# Altium integrated library Analog Devices Interface and Isolation Digital Isolators.IntLib: 645 symbols (part 11 of 36)
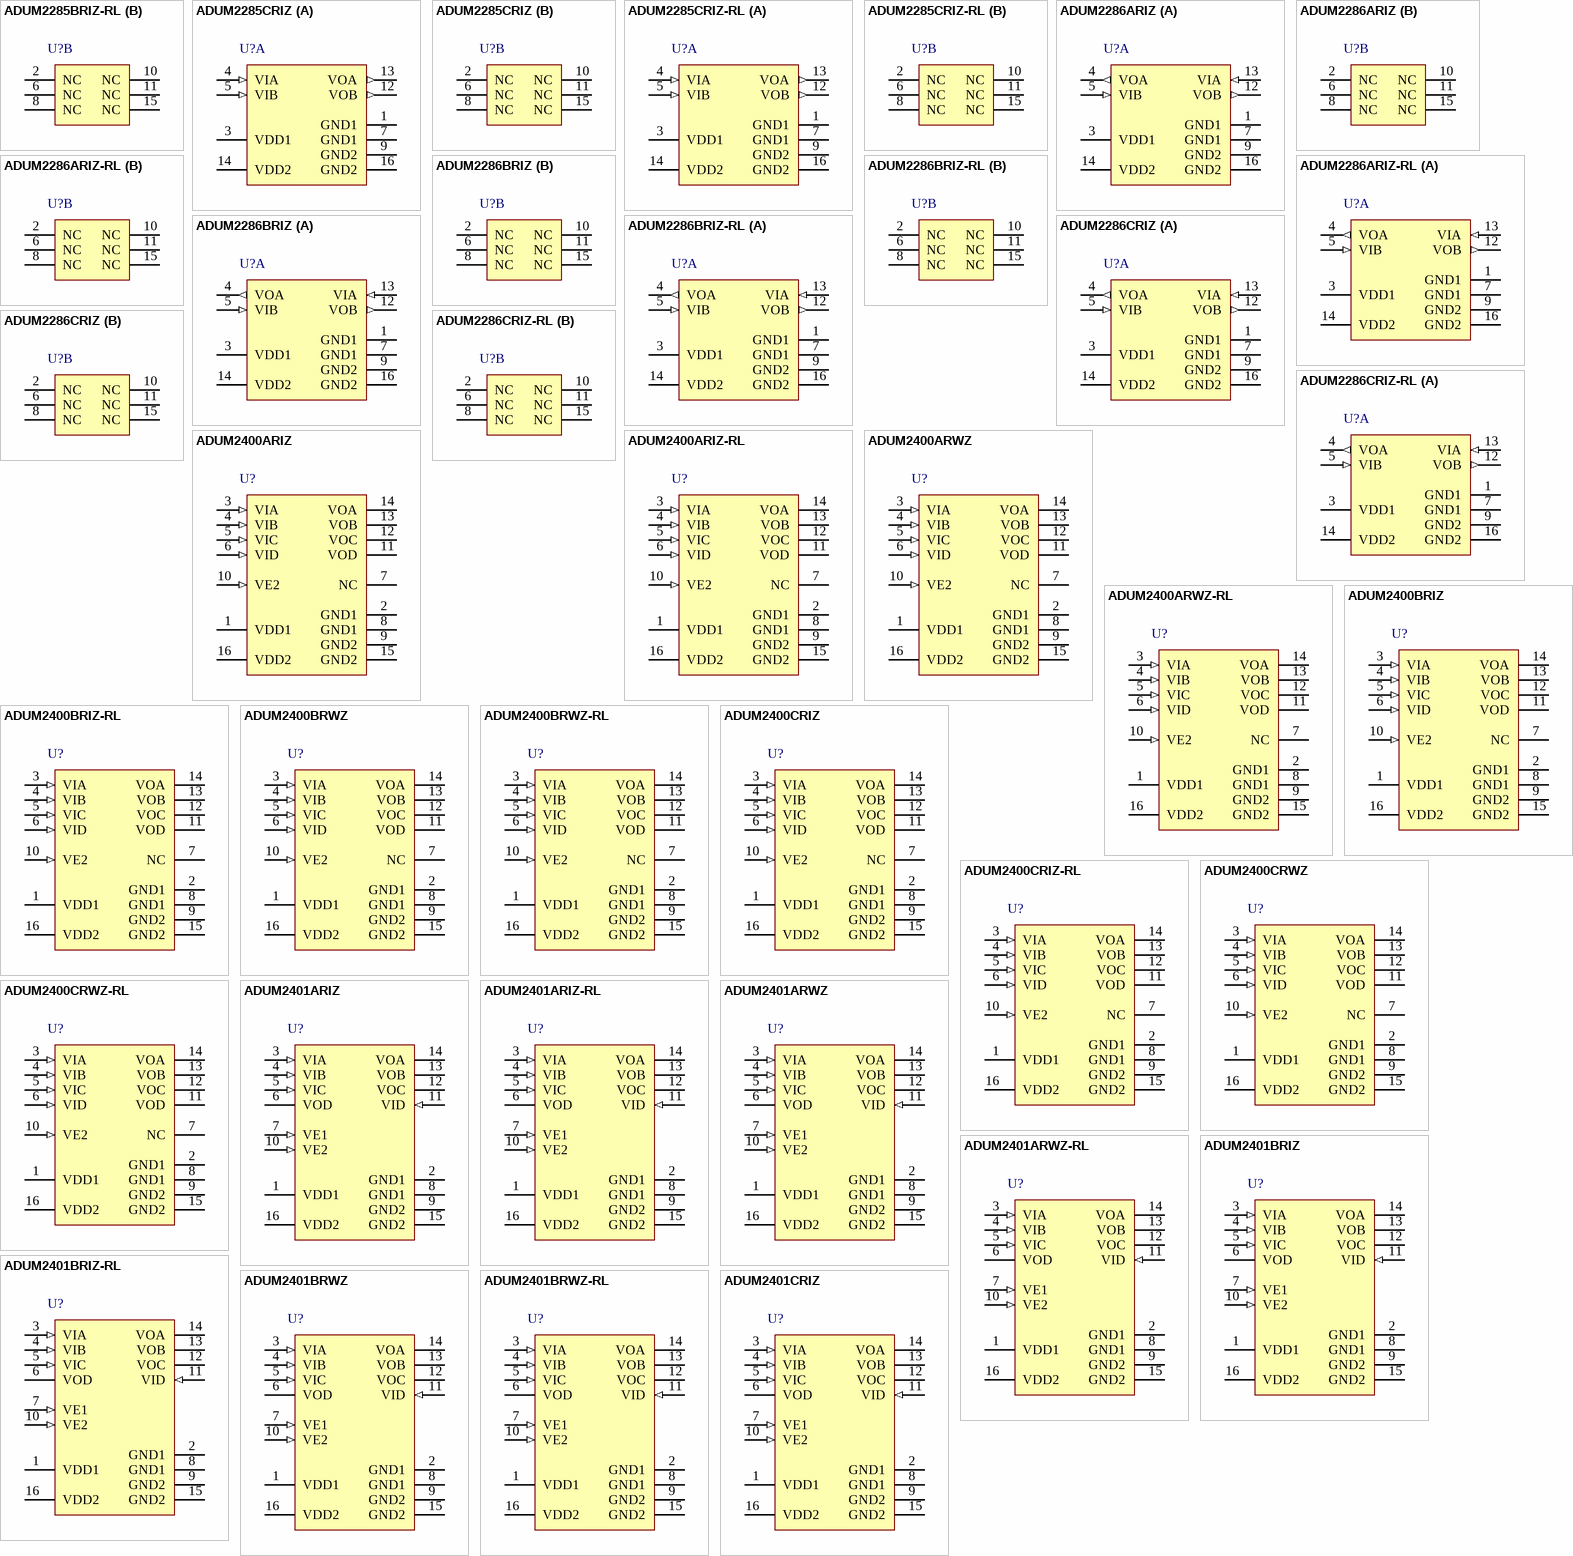
[diagram p30: symbols ADUM2285BRIZ-RL to ADUM2401CRIZ]

## ADUM2285CRIZ-RL
designator U?
Dual Channel Digital Isolator, 5 KV rms Insulation Rating, 100 Mbps Data Rate, 24 ns Delay, Industrial, 16-pin SOIC (RI-16-2), Reel; Manufacturer: Analog Devices; PartNumber: ADUM2285CRIZ-RL; Insulation Rating (kVrms): 5; DatasheetVersion: 11-15-2011-A; PackageVersion: 11-15-2011-A, 11/2012; PackageReference: RI-16-2; PackageDescription: 16-Pin Standard Small Outline Package, with Increased Creepage, Body 12.75 x 7.5 mm, Pitch 1.27 mm; Supplier 1: Digi-Key; Supplier Part Number 1: ADUM2285CRIZ-RL-ND; Max Data Rate: 100Mbps; Max Operating Temp (degreesC): 125; Mounting Technology: Surface Mount; Code_JEDEC: MS-013-AC; ComponentLink1Description: Manufacturer URL; ComponentLink1URL: http://www.analog.com/en/index.html; ComponentLink2Description: Datasheet; ComponentLink2URL: http://www.analog.com/static/imported-files/data_sheets/ADuM2280_2281_2285_2286.pdf; ComponentLink3Description: Package Specification; ComponentLink3URL: http://www.analog.com/static/imported-files/data_sheets/ADuM2280_2281_2285_2286.pdf; ComponentLink4Description: URL Link1; ComponentLink4URL: Product URL:http://www.analog.com/en/interface-isolation/digital-isolators/adum2285/products/product.html
footprint ADI-RI-16-2_N (SOIC, 16-Leads, Body 12.75x7.5mm, Pitch 1.27mm, IPC Medium Density)
footprint ADI-RI-16-2_L (SOIC, 16-Leads, Body 12.75x7.5mm, Pitch 1.27mm, IPC High Density)
footprint ADI-RI-16-2_M (SOIC, 16-Leads, Body 12.75x7.5mm, Pitch 1.27mm, IPC Low Density)
part A pins: 1 GND1 (power) "Ground 1. Ground reference for Isolator Side 1.", 3 VDD1 (power) "Supply Voltage for Isolator Side 1, 2.7 V to 5.5 V.", 4 VIA (in) "Logic Input A.", 5 VIB (in) "Logic Input B.", 7 GND1 (power) "Ground 1. Ground reference for Isolator Side 1.", 9 GND2 (power) "Ground 2. Ground reference for Isolator Side 2.", 12 VOB (out) "Logic Output B.", 13 VOA (out) "Logic Output A.", 14 VDD2 (power) "Supply Voltage for Isolator Side 2, 2.7 V to 5.5 V.", 16 GND2 (power) "Ground 2. Ground reference for Isolator Side 2."
part B pins: 2 NC "No internal connection.", 6 NC "No internal connection.", 8 NC "No internal connection.", 10 NC "No internal connection.", 11 NC "No internal connection.", 15 NC "No internal connection."

## ADUM2286ARIZ
designator U?
Dual Channel Digital Isolator, 5 KV rms Insulation Rating, 1 Mbps Data Rate, 50 ns Delay, Industrial, 16-pin SOIC (RI-16-2), Tube; Manufacturer: Analog Devices; PartNumber: ADUM2286ARIZ; Insulation Rating (kVrms): 5; Max Data Rate: 1Mbps; DatasheetVersion: 11-15-2011-A; PackageVersion: 11-15-2011-A, 11/2012; PackageReference: RI-16-2; PackageDescription: 16-Pin Standard Small Outline Package, with Increased Creepage, Body 12.75 x 7.5 mm, Pitch 1.27 mm; Supplier 1: Digi-Key; Supplier Part Number 1: ADUM2286ARIZ-ND; Max Operating Temp (degreesC): 125; Mounting Technology: Surface Mount; Code_JEDEC: MS-013-AC; ComponentLink1Description: Manufacturer URL; ComponentLink1URL: http://www.analog.com/en/index.html; ComponentLink2Description: Datasheet; ComponentLink2URL: http://www.analog.com/static/imported-files/data_sheets/ADuM2280_2281_2285_2286.pdf; ComponentLink3Description: Package Specification; ComponentLink3URL: http://www.analog.com/static/imported-files/data_sheets/ADuM2280_2281_2285_2286.pdf; ComponentLink4Description: URL Link1; ComponentLink4URL: Product URL:http://www.analog.com/en/interface-isolation/digital-isolators/adum2286/products/product.html
footprint ADI-RI-16-2_N (SOIC, 16-Leads, Body 12.75x7.5mm, Pitch 1.27mm, IPC Medium Density)
footprint ADI-RI-16-2_L (SOIC, 16-Leads, Body 12.75x7.5mm, Pitch 1.27mm, IPC High Density)
footprint ADI-RI-16-2_M (SOIC, 16-Leads, Body 12.75x7.5mm, Pitch 1.27mm, IPC Low Density)
part A pins: 1 GND1 (power) "Ground 1. Ground reference for Isolator Side 1.", 3 VDD1 (power) "Supply Voltage for Isolator Side 1.", 4 VOA (out) "Logic Output A.", 5 VIB (in) "Logic Input B.", 7 GND1 (power) "Ground 1. Ground reference for Isolator Side 1.", 9 GND2 (power) "Ground 2. Ground reference for Isolator Side 2.", 12 VOB (out) "Logic Output B.", 13 VIA (in) "Logic Input A.", 14 VDD2 (power) "Supply Voltage for Isolator Side 2.", 16 GND2 (power) "Ground 2. Ground reference for Isolator Side 2."
part B pins: 2 NC "No internal connection.", 6 NC "No internal connection.", 8 NC "No internal connection.", 10 NC "No internal connection.", 11 NC "No internal connection.", 15 NC "No internal connection."

## ADUM2286ARIZ-RL
designator U?
Dual Channel Digital Isolator, 5 KV rms Insulation Rating, 1 Mbps Data Rate, 50 ns Delay, Industrial, 16-pin SOIC (RI-16-2), Reel; Manufacturer: Analog Devices; PartNumber: ADUM2286ARIZ-RL; Insulation Rating (kVrms): 5; Max Data Rate: 1Mbps; DatasheetVersion: 11-15-2011-A; PackageVersion: 11-15-2011-A, 11/2012; PackageReference: RI-16-2; PackageDescription: 16-Pin Standard Small Outline Package, with Increased Creepage, Body 12.75 x 7.5 mm, Pitch 1.27 mm; Supplier 1: Digi-Key; Supplier Part Number 1: ADUM2286ARIZ-RL-ND; Max Operating Temp (degreesC): 125; Mounting Technology: Surface Mount; Code_JEDEC: MS-013-AC; ComponentLink1Description: Manufacturer URL; ComponentLink1URL: http://www.analog.com/en/index.html; ComponentLink2Description: Datasheet; ComponentLink2URL: http://www.analog.com/static/imported-files/data_sheets/ADuM2280_2281_2285_2286.pdf; ComponentLink3Description: Package Specification; ComponentLink3URL: http://www.analog.com/static/imported-files/data_sheets/ADuM2280_2281_2285_2286.pdf; ComponentLink4Description: URL Link1; ComponentLink4URL: Product URL:http://www.analog.com/en/interface-isolation/digital-isolators/adum2286/products/product.html
footprint ADI-RI-16-2_N (SOIC, 16-Leads, Body 12.75x7.5mm, Pitch 1.27mm, IPC Medium Density)
footprint ADI-RI-16-2_L (SOIC, 16-Leads, Body 12.75x7.5mm, Pitch 1.27mm, IPC High Density)
footprint ADI-RI-16-2_M (SOIC, 16-Leads, Body 12.75x7.5mm, Pitch 1.27mm, IPC Low Density)
part A pins: 1 GND1 (power) "Ground 1. Ground reference for Isolator Side 1.", 3 VDD1 (power) "Supply Voltage for Isolator Side 1.", 4 VOA (out) "Logic Output A.", 5 VIB (in) "Logic Input B.", 7 GND1 (power) "Ground 1. Ground reference for Isolator Side 1.", 9 GND2 (power) "Ground 2. Ground reference for Isolator Side 2.", 12 VOB (out) "Logic Output B.", 13 VIA (in) "Logic Input A.", 14 VDD2 (power) "Supply Voltage for Isolator Side 2.", 16 GND2 (power) "Ground 2. Ground reference for Isolator Side 2."
part B pins: 2 NC "No internal connection.", 6 NC "No internal connection.", 8 NC "No internal connection.", 10 NC "No internal connection.", 11 NC "No internal connection.", 15 NC "No internal connection."

## ADUM2286BRIZ
designator U?
Dual Channel Digital Isolator, 5 KV rms Insulation Rating, 25 Mbps Data Rate, 35 ns Delay, Industrial, 16-pin SOIC (RI-16-2), Tube; Manufacturer: Analog Devices; PartNumber: ADUM2286BRIZ; Insulation Rating (kVrms): 5; Max Data Rate: 25Mbps; DatasheetVersion: 11-15-2011-A; PackageVersion: 11-15-2011-A, 11/2012; PackageReference: RI-16-2; PackageDescription: 16-Pin Standard Small Outline Package, with Increased Creepage, Body 12.75 x 7.5 mm, Pitch 1.27 mm; Supplier 1: Digi-Key; Supplier Part Number 1: ADUM2286BRIZ-ND; Max Operating Temp (degreesC): 125; Mounting Technology: Surface Mount; Code_JEDEC: MS-013-AC; ComponentLink1Description: Manufacturer URL; ComponentLink1URL: http://www.analog.com/en/index.html; ComponentLink2Description: Datasheet; ComponentLink2URL: http://www.analog.com/static/imported-files/data_sheets/ADuM2280_2281_2285_2286.pdf; ComponentLink3Description: Package Specification; ComponentLink3URL: http://www.analog.com/static/imported-files/data_sheets/ADuM2280_2281_2285_2286.pdf; ComponentLink4Description: URL Link1; ComponentLink4URL: Product URL:http://www.analog.com/en/interface-isolation/digital-isolators/adum2286/products/product.html
footprint ADI-RI-16-2_N (SOIC, 16-Leads, Body 12.75x7.5mm, Pitch 1.27mm, IPC Medium Density)
footprint ADI-RI-16-2_L (SOIC, 16-Leads, Body 12.75x7.5mm, Pitch 1.27mm, IPC High Density)
footprint ADI-RI-16-2_M (SOIC, 16-Leads, Body 12.75x7.5mm, Pitch 1.27mm, IPC Low Density)
part A pins: 1 GND1 (power) "Ground 1. Ground reference for Isolator Side 1.", 3 VDD1 (power) "Supply Voltage for Isolator Side 1.", 4 VOA (out) "Logic Output A.", 5 VIB (in) "Logic Input B.", 7 GND1 (power) "Ground 1. Ground reference for Isolator Side 1.", 9 GND2 (power) "Ground 2. Ground reference for Isolator Side 2.", 12 VOB (out) "Logic Output B.", 13 VIA (in) "Logic Input A.", 14 VDD2 (power) "Supply Voltage for Isolator Side 2.", 16 GND2 (power) "Ground 2. Ground reference for Isolator Side 2."
part B pins: 2 NC "No internal connection.", 6 NC "No internal connection.", 8 NC "No internal connection.", 10 NC "No internal connection.", 11 NC "No internal connection.", 15 NC "No internal connection."

## ADUM2286BRIZ-RL
designator U?
Dual Channel Digital Isolator, 5 KV rms Insulation Rating, 25 Mbps Data Rate, 35 ns Delay, Industrial, 16-pin SOIC (RI-16-2), Reel; Manufacturer: Analog Devices; PartNumber: ADUM2286BRIZ-RL; Insulation Rating (kVrms): 5; Max Data Rate: 25Mbps; DatasheetVersion: 11-15-2011-A; PackageVersion: 11-15-2011-A, 11/2012; PackageReference: RI-16-2; PackageDescription: 16-Pin Standard Small Outline Package, with Increased Creepage, Body 12.75 x 7.5 mm, Pitch 1.27 mm; Supplier 1: Digi-Key; Supplier Part Number 1: ADUM2286BRIZ-RL-ND; Max Operating Temp (degreesC): 125; Mounting Technology: Surface Mount; Code_JEDEC: MS-013-AC; ComponentLink1Description: Manufacturer URL; ComponentLink1URL: http://www.analog.com/en/index.html; ComponentLink2Description: Datasheet; ComponentLink2URL: http://www.analog.com/static/imported-files/data_sheets/ADuM2280_2281_2285_2286.pdf; ComponentLink3Description: Package Specification; ComponentLink3URL: http://www.analog.com/static/imported-files/data_sheets/ADuM2280_2281_2285_2286.pdf; ComponentLink4Description: URL Link1; ComponentLink4URL: Product URL:http://www.analog.com/en/interface-isolation/digital-isolators/adum2286/products/product.html
footprint ADI-RI-16-2_N (SOIC, 16-Leads, Body 12.75x7.5mm, Pitch 1.27mm, IPC Medium Density)
footprint ADI-RI-16-2_L (SOIC, 16-Leads, Body 12.75x7.5mm, Pitch 1.27mm, IPC High Density)
footprint ADI-RI-16-2_M (SOIC, 16-Leads, Body 12.75x7.5mm, Pitch 1.27mm, IPC Low Density)
part A pins: 1 GND1 (power) "Ground 1. Ground reference for Isolator Side 1.", 3 VDD1 (power) "Supply Voltage for Isolator Side 1.", 4 VOA (out) "Logic Output A.", 5 VIB (in) "Logic Input B.", 7 GND1 (power) "Ground 1. Ground reference for Isolator Side 1.", 9 GND2 (power) "Ground 2. Ground reference for Isolator Side 2.", 12 VOB (out) "Logic Output B.", 13 VIA (in) "Logic Input A.", 14 VDD2 (power) "Supply Voltage for Isolator Side 2.", 16 GND2 (power) "Ground 2. Ground reference for Isolator Side 2."
part B pins: 2 NC "No internal connection.", 6 NC "No internal connection.", 8 NC "No internal connection.", 10 NC "No internal connection.", 11 NC "No internal connection.", 15 NC "No internal connection."

## ADUM2286CRIZ
designator U?
Dual Channel Digital Isolator, 5 KV rms Insulation Rating, 100 Mbps Data Rate, 24 ns Delay, Industrial, 16-pin SOIC (RI-16-2), Tube; Manufacturer: Analog Devices; PartNumber: ADUM2286CRIZ; Insulation Rating (kVrms): 5; DatasheetVersion: 11-15-2011-A; PackageVersion: 11-15-2011-A, 11/2012; PackageReference: RI-16-2; PackageDescription: 16-Pin Standard Small Outline Package, with Increased Creepage, Body 12.75 x 7.5 mm, Pitch 1.27 mm; Supplier 1: Digi-Key; Supplier Part Number 1: ADUM2286CRIZ-ND; Max Data Rate: 100Mbps; Max Operating Temp (degreesC): 125; Mounting Technology: Surface Mount; Code_JEDEC: MS-013-AC; ComponentLink1Description: Manufacturer URL; ComponentLink1URL: http://www.analog.com/en/index.html; ComponentLink2Description: Datasheet; ComponentLink2URL: http://www.analog.com/static/imported-files/data_sheets/ADuM2280_2281_2285_2286.pdf; ComponentLink3Description: Package Specification; ComponentLink3URL: http://www.analog.com/static/imported-files/data_sheets/ADuM2280_2281_2285_2286.pdf; ComponentLink4Description: URL Link1; ComponentLink4URL: Product URL:http://www.analog.com/en/interface-isolation/digital-isolators/adum2286/products/product.html
footprint ADI-RI-16-2_N (SOIC, 16-Leads, Body 12.75x7.5mm, Pitch 1.27mm, IPC Medium Density)
footprint ADI-RI-16-2_L (SOIC, 16-Leads, Body 12.75x7.5mm, Pitch 1.27mm, IPC High Density)
footprint ADI-RI-16-2_M (SOIC, 16-Leads, Body 12.75x7.5mm, Pitch 1.27mm, IPC Low Density)
part A pins: 1 GND1 (power) "Ground 1. Ground reference for Isolator Side 1.", 3 VDD1 (power) "Supply Voltage for Isolator Side 1.", 4 VOA (out) "Logic Output A.", 5 VIB (in) "Logic Input B.", 7 GND1 (power) "Ground 1. Ground reference for Isolator Side 1.", 9 GND2 (power) "Ground 2. Ground reference for Isolator Side 2.", 12 VOB (out) "Logic Output B.", 13 VIA (in) "Logic Input A.", 14 VDD2 (power) "Supply Voltage for Isolator Side 2.", 16 GND2 (power) "Ground 2. Ground reference for Isolator Side 2."
part B pins: 2 NC "No internal connection.", 6 NC "No internal connection.", 8 NC "No internal connection.", 10 NC "No internal connection.", 11 NC "No internal connection.", 15 NC "No internal connection."

## ADUM2286CRIZ-RL
designator U?
Dual Channel Digital Isolator, 5 KV rms Insulation Rating, 100 Mbps Data Rate, 24 ns Delay, Industrial, 16-pin SOIC (RI-16-2), Reel; Manufacturer: Analog Devices; PartNumber: ADUM2286CRIZ-RL; Insulation Rating (kVrms): 5; DatasheetVersion: 11-15-2011-A; PackageVersion: 11-15-2011-A, 11/2012; PackageReference: RI-16-2; PackageDescription: 16-Pin Standard Small Outline Package, with Increased Creepage, Body 12.75 x 7.5 mm, Pitch 1.27 mm; Supplier 1: Digi-Key; Supplier Part Number 1: ADUM2286CRIZ-RL-ND; Max Data Rate: 100Mbps; Max Operating Temp (degreesC): 125; Mounting Technology: Surface Mount; Code_JEDEC: MS-013-AC; ComponentLink1Description: Manufacturer URL; ComponentLink1URL: http://www.analog.com/en/index.html; ComponentLink2Description: Datasheet; ComponentLink2URL: http://www.analog.com/static/imported-files/data_sheets/ADuM2280_2281_2285_2286.pdf; ComponentLink3Description: Package Specification; ComponentLink3URL: http://www.analog.com/static/imported-files/data_sheets/ADuM2280_2281_2285_2286.pdf; ComponentLink4Description: URL Link1; ComponentLink4URL: Product URL:http://www.analog.com/en/interface-isolation/digital-isolators/adum2286/products/product.html
footprint ADI-RI-16-2_N (SOIC, 16-Leads, Body 12.75x7.5mm, Pitch 1.27mm, IPC Medium Density)
footprint ADI-RI-16-2_L (SOIC, 16-Leads, Body 12.75x7.5mm, Pitch 1.27mm, IPC High Density)
footprint ADI-RI-16-2_M (SOIC, 16-Leads, Body 12.75x7.5mm, Pitch 1.27mm, IPC Low Density)
part A pins: 1 GND1 (power) "Ground 1. Ground reference for Isolator Side 1.", 3 VDD1 (power) "Supply Voltage for Isolator Side 1.", 4 VOA (out) "Logic Output A.", 5 VIB (in) "Logic Input B.", 7 GND1 (power) "Ground 1. Ground reference for Isolator Side 1.", 9 GND2 (power) "Ground 2. Ground reference for Isolator Side 2.", 12 VOB (out) "Logic Output B.", 13 VIA (in) "Logic Input A.", 14 VDD2 (power) "Supply Voltage for Isolator Side 2.", 16 GND2 (power) "Ground 2. Ground reference for Isolator Side 2."
part B pins: 2 NC "No internal connection.", 6 NC "No internal connection.", 8 NC "No internal connection.", 10 NC "No internal connection.", 11 NC "No internal connection.", 15 NC "No internal connection."

## ADUM2400ARIZ
designator U?
Quad Channel Digital Isolator, 5 KV rms Insulation Rating, 1 Mbps Data Rate, 100 ns Delay, Industrial, 16-pin SOIC (RI-16-1), Tube; Manufacturer: Analog Devices; PartNumber: ADUM2400ARIZ; Insulation Rating (kVrms): 5; Max Data Rate: 1Mbps; DatasheetVersion: 10-12-2010-A; PackageVersion: 10-12-2010-A, 02/2012; PackageReference: RI-16-1; PackageDescription: 16-Pin Standard Small Outline Package, with Increased Creepage, Body 12.8 x 7.5 mm, Pitch 1.27 mm; Supplier 1: Digi-Key; Supplier Part Number 1: ADUM2400ARIZ-ND; Max Operating Temp (degreesC): 105; Mounting Technology: Surface Mount; Code_JEDEC: MS-013-AC; ComponentLink1Description: Manufacturer URL; ComponentLink1URL: http://www.analog.com/en/index.html; ComponentLink2Description: Datasheet; ComponentLink2URL: http://www.analog.com/static/imported-files/data_sheets/ADuM2400_2401_2402.pdf; ComponentLink3Description: Package Specification; ComponentLink3URL: http://www.analog.com/static/imported-files/data_sheets/ADuM2400_2401_2402.pdf; ComponentLink4Description: URL Link1; ComponentLink4URL: Product URL:http://www.analog.com/en/interface-isolation/digital-isolators/adum2400/products/product.html
footprint ADI-RI-16-1_N (SOIC, 16-Leads, Body 12.8x7.5mm, Pitch 1.27mm, IPC Medium Density)
footprint ADI-RI-16-1_L (SOIC, 16-Leads, Body 12.8x7.5mm, Pitch 1.27mm, IPC High Density)
footprint ADI-RI-16-1_M (SOIC, 16-Leads, Body 12.8x7.5mm, Pitch 1.27mm, IPC Low Density)
pins: 1 VDD1 (power) "Supply Voltage for Isolator Side 1.", 2 GND1 (power) "Ground 1. Ground reference for Isolator Side 1.", 3 VIA (in) "Logic Input A.", 4 VIB (in) "Logic Input B.", 5 VIC (in) "Logic Input C.", 6 VID (in) "Logic Input D.", 7 NC "No Connect.", 8 GND1 (power) "Ground 1. Ground reference for Isolator Side 1.", 9 GND2 (power) "Ground 2. Ground reference for Isolator Side 2.", 10 VE2 (in) "Output Enable 2. Active high logic input. VOA, VOB, VOC, and VOD outputs are enabled when VE2 is high or disconnected. VOA, VOB, VOC, and VOD outputs are disabled when VE2 is low. In noisy environments, connecting VE2 to an (See Datasheet)", 11 VOD (hiz) "Logic Output D.", 12 VOC (hiz) "Logic Output C.", 13 VOB (hiz) "Logic Output B.", 14 VOA (hiz) "Logic Output A.", 15 GND2 (power) "Ground 2. Ground reference for Isolator Side 2.", 16 VDD2 (power) "Supply Voltage for Isolator Side 2."

## ADUM2400ARIZ-RL
designator U?
Quad Channel Digital Isolator, 5 KV rms Insulation Rating, 1 Mbps Data Rate, 100 ns Delay, Industrial, 16-pin SOIC (RI-16-1), Reel; Manufacturer: Analog Devices; PartNumber: ADUM2400ARIZ-RL; Insulation Rating (kVrms): 5; Max Data Rate: 1Mbps; DatasheetVersion: 10-12-2010-A; PackageVersion: 10-12-2010-A, 02/2012; PackageReference: RI-16-1; PackageDescription: 16-Pin Standard Small Outline Package, with Increased Creepage, Body 12.8 x 7.5 mm, Pitch 1.27 mm; Supplier 1: Digi-Key; Supplier Part Number 1: ADUM2400ARIZ-RL-ND; Max Operating Temp (degreesC): 105; Mounting Technology: Surface Mount; Code_JEDEC: MS-013-AC; ComponentLink1Description: Manufacturer URL; ComponentLink1URL: http://www.analog.com/en/index.html; ComponentLink2Description: Datasheet; ComponentLink2URL: http://www.analog.com/static/imported-files/data_sheets/ADuM2400_2401_2402.pdf; ComponentLink3Description: Package Specification; ComponentLink3URL: http://www.analog.com/static/imported-files/data_sheets/ADuM2400_2401_2402.pdf; ComponentLink4Description: URL Link1; ComponentLink4URL: Product URL:http://www.analog.com/en/interface-isolation/digital-isolators/adum2400/products/product.html
footprint ADI-RI-16-1_N (SOIC, 16-Leads, Body 12.8x7.5mm, Pitch 1.27mm, IPC Medium Density)
footprint ADI-RI-16-1_L (SOIC, 16-Leads, Body 12.8x7.5mm, Pitch 1.27mm, IPC High Density)
footprint ADI-RI-16-1_M (SOIC, 16-Leads, Body 12.8x7.5mm, Pitch 1.27mm, IPC Low Density)
pins: 1 VDD1 (power) "Supply Voltage for Isolator Side 1.", 2 GND1 (power) "Ground 1. Ground reference for Isolator Side 1.", 3 VIA (in) "Logic Input A.", 4 VIB (in) "Logic Input B.", 5 VIC (in) "Logic Input C.", 6 VID (in) "Logic Input D.", 7 NC "No Connect.", 8 GND1 (power) "Ground 1. Ground reference for Isolator Side 1.", 9 GND2 (power) "Ground 2. Ground reference for Isolator Side 2.", 10 VE2 (in) "Output Enable 2. Active high logic input. VOA, VOB, VOC, and VOD outputs are enabled when VE2 is high or disconnected. VOA, VOB, VOC, and VOD outputs are disabled when VE2 is low. In noisy environments, connecting VE2 to an (See Datasheet)", 11 VOD (hiz) "Logic Output D.", 12 VOC (hiz) "Logic Output C.", 13 VOB (hiz) "Logic Output B.", 14 VOA (hiz) "Logic Output A.", 15 GND2 (power) "Ground 2. Ground reference for Isolator Side 2.", 16 VDD2 (power) "Supply Voltage for Isolator Side 2."

## ADUM2400ARWZ
designator U?
Quad Channel Digital Isolator, 5 KV rms Insulation Rating, 1 Mbps Data Rate, 100 ns Delay, Industrial, 16-pin SOIC (RW-16), Tube; Manufacturer: Analog Devices; PartNumber: ADUM2400ARWZ; Insulation Rating (kVrms): 5; Max Data Rate: 1Mbps; DatasheetVersion: 10-12-2010-A; PackageVersion: 032707-B, 03/2007; PackageReference: RW-16; PackageDescription: 16-Pin Standard Small Outline Package, Body 10.3 x 7.5 mm, Pitch 1.27 mm; Supplier 1: Digi-Key; Supplier Part Number 1: ADUM2400ARWZ-ND; Max Operating Temp (degreesC): 105; Mounting Technology: Surface Mount; Code_JEDEC: MS-013-AA; ComponentLink1Description: Manufacturer URL; ComponentLink1URL: http://www.analog.com/en/index.html; ComponentLink2Description: Datasheet; ComponentLink2URL: http://www.analog.com/static/imported-files/data_sheets/ADuM2400_2401_2402.pdf; ComponentLink3Description: Package Specification; ComponentLink3URL: http://www.analog.com/static/imported-files/packages/PKG_PDF/SOIC_WIDE%20%28RW%29/RW_16.pdf; ComponentLink4Description: URL Link1; ComponentLink4URL: Product URL:http://www.analog.com/en/interface-isolation/digital-isolators/adum2400/products/product.html
footprint ADI-RW-16_N (SOIC, 16-Leads, Body 10.3x7.5mm, Pitch 1.27mm, IPC Medium Density)
footprint ADI-RW-16_L (SOIC, 16-Leads, Body 10.3x7.5mm, Pitch 1.27mm, IPC High Density)
footprint ADI-RW-16_M (SOIC, 16-Leads, Body 10.3x7.5mm, Pitch 1.27mm, IPC Low Density)
pins: 1 VDD1 (power) "Supply Voltage for Isolator Side 1.", 2 GND1 (power) "Ground 1. Ground reference for Isolator Side 1.", 3 VIA (in) "Logic Input A.", 4 VIB (in) "Logic Input B.", 5 VIC (in) "Logic Input C.", 6 VID (in) "Logic Input D.", 7 NC "No Connect.", 8 GND1 (power) "Ground 1. Ground reference for Isolator Side 1.", 9 GND2 (power) "Ground 2. Ground reference for Isolator Side 2.", 10 VE2 (in) "Output Enable 2. Active high logic input. VOA, VOB, VOC, and VOD outputs are enabled when VE2 is high or disconnected. VOA, VOB, VOC, and VOD outputs are disabled when VE2 is low. In noisy environments, connecting VE2 to an (See Datasheet)", 11 VOD (hiz) "Logic Output D.", 12 VOC (hiz) "Logic Output C.", 13 VOB (hiz) "Logic Output B.", 14 VOA (hiz) "Logic Output A.", 15 GND2 (power) "Ground 2. Ground reference for Isolator Side 2.", 16 VDD2 (power) "Supply Voltage for Isolator Side 2."

## ADUM2400ARWZ-RL
designator U?
Quad Channel Digital Isolator, 5 KV rms Insulation Rating, 1 Mbps Data Rate, 100 ns Delay, Industrial, 16-pin SOIC (RW-16), Reel; Manufacturer: Analog Devices; PartNumber: ADUM2400ARWZ-RL; Insulation Rating (kVrms): 5; Max Data Rate: 1Mbps; DatasheetVersion: 10-12-2010-A; PackageVersion: 032707-B, 03/2007; PackageReference: RW-16; PackageDescription: 16-Pin Standard Small Outline Package, Body 10.3 x 7.5 mm, Pitch 1.27 mm; Supplier 1: Digi-Key; Supplier Part Number 1: ADUM2400ARWZ-RLTR-ND; Max Operating Temp (degreesC): 105; Mounting Technology: Surface Mount; Code_JEDEC: MS-013-AA; ComponentLink1Description: Manufacturer URL; ComponentLink1URL: http://www.analog.com/en/index.html; ComponentLink2Description: Datasheet; ComponentLink2URL: http://www.analog.com/static/imported-files/data_sheets/ADuM2400_2401_2402.pdf; ComponentLink3Description: Package Specification; ComponentLink3URL: http://www.analog.com/static/imported-files/packages/PKG_PDF/SOIC_WIDE%20%28RW%29/RW_16.pdf; ComponentLink4Description: URL Link1; ComponentLink4URL: Product URL:http://www.analog.com/en/interface-isolation/digital-isolators/adum2400/products/product.html
footprint ADI-RW-16_N (SOIC, 16-Leads, Body 10.3x7.5mm, Pitch 1.27mm, IPC Medium Density)
footprint ADI-RW-16_L (SOIC, 16-Leads, Body 10.3x7.5mm, Pitch 1.27mm, IPC High Density)
footprint ADI-RW-16_M (SOIC, 16-Leads, Body 10.3x7.5mm, Pitch 1.27mm, IPC Low Density)
pins: 1 VDD1 (power) "Supply Voltage for Isolator Side 1.", 2 GND1 (power) "Ground 1. Ground reference for Isolator Side 1.", 3 VIA (in) "Logic Input A.", 4 VIB (in) "Logic Input B.", 5 VIC (in) "Logic Input C.", 6 VID (in) "Logic Input D.", 7 NC "No Connect.", 8 GND1 (power) "Ground 1. Ground reference for Isolator Side 1.", 9 GND2 (power) "Ground 2. Ground reference for Isolator Side 2.", 10 VE2 (in) "Output Enable 2. Active high logic input. VOA, VOB, VOC, and VOD outputs are enabled when VE2 is high or disconnected. VOA, VOB, VOC, and VOD outputs are disabled when VE2 is low. In noisy environments, connecting VE2 to an (See Datasheet)", 11 VOD (hiz) "Logic Output D.", 12 VOC (hiz) "Logic Output C.", 13 VOB (hiz) "Logic Output B.", 14 VOA (hiz) "Logic Output A.", 15 GND2 (power) "Ground 2. Ground reference for Isolator Side 2.", 16 VDD2 (power) "Supply Voltage for Isolator Side 2."

## ADUM2400BRIZ
designator U?
Quad Channel Digital Isolator, 5 KV rms Insulation Rating, 10 Mbps Data Rate, 50 ns Delay, Industrial, 16-pin SOIC (RI-16-1), Tube; Manufacturer: Analog Devices; PartNumber: ADUM2400BRIZ; Insulation Rating (kVrms): 5; Max Data Rate: 10Mbps; DatasheetVersion: 10-12-2010-A; PackageVersion: 10-12-2010-A, 02/2012; PackageReference: RI-16-1; PackageDescription: 16-Pin Standard Small Outline Package, with Increased Creepage, Body 12.8 x 7.5 mm, Pitch 1.27 mm; Supplier 1: Digi-Key; Supplier Part Number 1: ADUM2400BRIZ-ND; Max Operating Temp (degreesC): 105; Mounting Technology: Surface Mount; Code_JEDEC: MS-013-AC; ComponentLink1Description: Manufacturer URL; ComponentLink1URL: http://www.analog.com/en/index.html; ComponentLink2Description: Datasheet; ComponentLink2URL: http://www.analog.com/static/imported-files/data_sheets/ADuM2400_2401_2402.pdf; ComponentLink3Description: Package Specification; ComponentLink3URL: http://www.analog.com/static/imported-files/data_sheets/ADuM2400_2401_2402.pdf; ComponentLink4Description: URL Link1; ComponentLink4URL: Product URL:http://www.analog.com/en/interface-isolation/digital-isolators/adum2400/products/product.html
footprint ADI-RI-16-1_N (SOIC, 16-Leads, Body 12.8x7.5mm, Pitch 1.27mm, IPC Medium Density)
footprint ADI-RI-16-1_L (SOIC, 16-Leads, Body 12.8x7.5mm, Pitch 1.27mm, IPC High Density)
footprint ADI-RI-16-1_M (SOIC, 16-Leads, Body 12.8x7.5mm, Pitch 1.27mm, IPC Low Density)
pins: 1 VDD1 (power) "Supply Voltage for Isolator Side 1.", 2 GND1 (power) "Ground 1. Ground reference for Isolator Side 1.", 3 VIA (in) "Logic Input A.", 4 VIB (in) "Logic Input B.", 5 VIC (in) "Logic Input C.", 6 VID (in) "Logic Input D.", 7 NC "No Connect.", 8 GND1 (power) "Ground 1. Ground reference for Isolator Side 1.", 9 GND2 (power) "Ground 2. Ground reference for Isolator Side 2.", 10 VE2 (in) "Output Enable 2. Active high logic input. VOA, VOB, VOC, and VOD outputs are enabled when VE2 is high or disconnected. VOA, VOB, VOC, and VOD outputs are disabled when VE2 is low. In noisy environments, connecting VE2 to an (See Datasheet)", 11 VOD (hiz) "Logic Output D.", 12 VOC (hiz) "Logic Output C.", 13 VOB (hiz) "Logic Output B.", 14 VOA (hiz) "Logic Output A.", 15 GND2 (power) "Ground 2. Ground reference for Isolator Side 2.", 16 VDD2 (power) "Supply Voltage for Isolator Side 2."

## ADUM2400BRIZ-RL
designator U?
Quad Channel Digital Isolator, 5 KV rms Insulation Rating, 10 Mbps Data Rate, 50 ns Delay, Industrial, 16-pin SOIC (RI-16-1), Reel; Manufacturer: Analog Devices; PartNumber: ADUM2400BRIZ-RL; Insulation Rating (kVrms): 5; Max Data Rate: 10Mbps; DatasheetVersion: 10-12-2010-A; PackageVersion: 10-12-2010-A, 02/2012; PackageReference: RI-16-1; PackageDescription: 16-Pin Standard Small Outline Package, with Increased Creepage, Body 12.8 x 7.5 mm, Pitch 1.27 mm; Supplier 1: Digi-Key; Supplier Part Number 1: ADUM2400BRIZ-RL-ND; Max Operating Temp (degreesC): 105; Mounting Technology: Surface Mount; Code_JEDEC: MS-013-AC; ComponentLink1Description: Manufacturer URL; ComponentLink1URL: http://www.analog.com/en/index.html; ComponentLink2Description: Datasheet; ComponentLink2URL: http://www.analog.com/static/imported-files/data_sheets/ADuM2400_2401_2402.pdf; ComponentLink3Description: Package Specification; ComponentLink3URL: http://www.analog.com/static/imported-files/data_sheets/ADuM2400_2401_2402.pdf; ComponentLink4Description: URL Link1; ComponentLink4URL: Product URL:http://www.analog.com/en/interface-isolation/digital-isolators/adum2400/products/product.html
footprint ADI-RI-16-1_N (SOIC, 16-Leads, Body 12.8x7.5mm, Pitch 1.27mm, IPC Medium Density)
footprint ADI-RI-16-1_L (SOIC, 16-Leads, Body 12.8x7.5mm, Pitch 1.27mm, IPC High Density)
footprint ADI-RI-16-1_M (SOIC, 16-Leads, Body 12.8x7.5mm, Pitch 1.27mm, IPC Low Density)
pins: 1 VDD1 (power) "Supply Voltage for Isolator Side 1.", 2 GND1 (power) "Ground 1. Ground reference for Isolator Side 1.", 3 VIA (in) "Logic Input A.", 4 VIB (in) "Logic Input B.", 5 VIC (in) "Logic Input C.", 6 VID (in) "Logic Input D.", 7 NC "No Connect.", 8 GND1 (power) "Ground 1. Ground reference for Isolator Side 1.", 9 GND2 (power) "Ground 2. Ground reference for Isolator Side 2.", 10 VE2 (in) "Output Enable 2. Active high logic input. VOA, VOB, VOC, and VOD outputs are enabled when VE2 is high or disconnected. VOA, VOB, VOC, and VOD outputs are disabled when VE2 is low. In noisy environments, connecting VE2 to an (See Datasheet)", 11 VOD (hiz) "Logic Output D.", 12 VOC (hiz) "Logic Output C.", 13 VOB (hiz) "Logic Output B.", 14 VOA (hiz) "Logic Output A.", 15 GND2 (power) "Ground 2. Ground reference for Isolator Side 2.", 16 VDD2 (power) "Supply Voltage for Isolator Side 2."

## ADUM2400BRWZ
designator U?
Quad Channel Digital Isolator, 5 KV rms Insulation Rating, 10 Mbps Data Rate, 50 ns Delay, Industrial, 16-pin SOIC (RW-16), Tube; Manufacturer: Analog Devices; PartNumber: ADUM2400BRWZ; Insulation Rating (kVrms): 5; Max Data Rate: 10Mbps; DatasheetVersion: 10-12-2010-A; PackageVersion: 032707-B, 03/2007; PackageReference: RW-16; PackageDescription: 16-Pin Standard Small Outline Package, Body 10.3 x 7.5 mm, Pitch 1.27 mm; Supplier 1: Digi-Key; Supplier Part Number 1: ADUM2400BRWZ-ND; Max Operating Temp (degreesC): 105; Mounting Technology: Surface Mount; Code_JEDEC: MS-013-AA; ComponentLink1Description: Manufacturer URL; ComponentLink1URL: http://www.analog.com/en/index.html; ComponentLink2Description: Datasheet; ComponentLink2URL: http://www.analog.com/static/imported-files/data_sheets/ADuM2400_2401_2402.pdf; ComponentLink3Description: Package Specification; ComponentLink3URL: http://www.analog.com/static/imported-files/packages/PKG_PDF/SOIC_WIDE%20%28RW%29/RW_16.pdf; ComponentLink4Description: URL Link1; ComponentLink4URL: Product URL:http://www.analog.com/en/interface-isolation/digital-isolators/adum2400/products/product.html
footprint ADI-RW-16_N (SOIC, 16-Leads, Body 10.3x7.5mm, Pitch 1.27mm, IPC Medium Density)
footprint ADI-RW-16_L (SOIC, 16-Leads, Body 10.3x7.5mm, Pitch 1.27mm, IPC High Density)
footprint ADI-RW-16_M (SOIC, 16-Leads, Body 10.3x7.5mm, Pitch 1.27mm, IPC Low Density)
pins: 1 VDD1 (power) "Supply Voltage for Isolator Side 1.", 2 GND1 (power) "Ground 1. Ground reference for Isolator Side 1.", 3 VIA (in) "Logic Input A.", 4 VIB (in) "Logic Input B.", 5 VIC (in) "Logic Input C.", 6 VID (in) "Logic Input D.", 7 NC "No Connect.", 8 GND1 (power) "Ground 1. Ground reference for Isolator Side 1.", 9 GND2 (power) "Ground 2. Ground reference for Isolator Side 2.", 10 VE2 (in) "Output Enable 2. Active high logic input. VOA, VOB, VOC, and VOD outputs are enabled when VE2 is high or disconnected. VOA, VOB, VOC, and VOD outputs are disabled when VE2 is low. In noisy environments, connecting VE2 to an (See Datasheet)", 11 VOD (hiz) "Logic Output D.", 12 VOC (hiz) "Logic Output C.", 13 VOB (hiz) "Logic Output B.", 14 VOA (hiz) "Logic Output A.", 15 GND2 (power) "Ground 2. Ground reference for Isolator Side 2.", 16 VDD2 (power) "Supply Voltage for Isolator Side 2."

## ADUM2400BRWZ-RL
designator U?
Quad Channel Digital Isolator, 5 KV rms Insulation Rating, 10 Mbps Data Rate, 50 ns Delay, Industrial, 16-pin SOIC (RW-16), Reel; Manufacturer: Analog Devices; PartNumber: ADUM2400BRWZ-RL; Insulation Rating (kVrms): 5; Max Data Rate: 10Mbps; DatasheetVersion: 10-12-2010-A; PackageVersion: 032707-B, 03/2007; PackageReference: RW-16; PackageDescription: 16-Pin Standard Small Outline Package, Body 10.3 x 7.5 mm, Pitch 1.27 mm; Supplier 1: Digi-Key; Supplier Part Number 1: ADUM2400BRWZ-RLTR-ND; Max Operating Temp (degreesC): 105; Mounting Technology: Surface Mount; Code_JEDEC: MS-013-AA; ComponentLink1Description: Manufacturer URL; ComponentLink1URL: http://www.analog.com/en/index.html; ComponentLink2Description: Datasheet; ComponentLink2URL: http://www.analog.com/static/imported-files/data_sheets/ADuM2400_2401_2402.pdf; ComponentLink3Description: Package Specification; ComponentLink3URL: http://www.analog.com/static/imported-files/packages/PKG_PDF/SOIC_WIDE%20%28RW%29/RW_16.pdf; ComponentLink4Description: URL Link1; ComponentLink4URL: Product URL:http://www.analog.com/en/interface-isolation/digital-isolators/adum2400/products/product.html
footprint ADI-RW-16_N (SOIC, 16-Leads, Body 10.3x7.5mm, Pitch 1.27mm, IPC Medium Density)
footprint ADI-RW-16_L (SOIC, 16-Leads, Body 10.3x7.5mm, Pitch 1.27mm, IPC High Density)
footprint ADI-RW-16_M (SOIC, 16-Leads, Body 10.3x7.5mm, Pitch 1.27mm, IPC Low Density)
pins: 1 VDD1 (power) "Supply Voltage for Isolator Side 1.", 2 GND1 (power) "Ground 1. Ground reference for Isolator Side 1.", 3 VIA (in) "Logic Input A.", 4 VIB (in) "Logic Input B.", 5 VIC (in) "Logic Input C.", 6 VID (in) "Logic Input D.", 7 NC "No Connect.", 8 GND1 (power) "Ground 1. Ground reference for Isolator Side 1.", 9 GND2 (power) "Ground 2. Ground reference for Isolator Side 2.", 10 VE2 (in) "Output Enable 2. Active high logic input. VOA, VOB, VOC, and VOD outputs are enabled when VE2 is high or disconnected. VOA, VOB, VOC, and VOD outputs are disabled when VE2 is low. In noisy environments, connecting VE2 to an (See Datasheet)", 11 VOD (hiz) "Logic Output D.", 12 VOC (hiz) "Logic Output C.", 13 VOB (hiz) "Logic Output B.", 14 VOA (hiz) "Logic Output A.", 15 GND2 (power) "Ground 2. Ground reference for Isolator Side 2.", 16 VDD2 (power) "Supply Voltage for Isolator Side 2."

## ADUM2400CRIZ
designator U?
Quad Channel Digital Isolator, 5 KV rms Insulation Rating, 90 Mbps Data Rate, 32 ns Delay, Industrial, 16-pin SOIC (RI-16-1), Tube; Manufacturer: Analog Devices; PartNumber: ADUM2400CRIZ; Insulation Rating (kVrms): 5; Max Data Rate: 90Mbps; DatasheetVersion: 10-12-2010-A; PackageVersion: 10-12-2010-A, 02/2012; PackageReference: RI-16-1; PackageDescription: 16-Pin Standard Small Outline Package, with Increased Creepage, Body 12.8 x 7.5 mm, Pitch 1.27 mm; Supplier 1: Digi-Key; Supplier Part Number 1: ADUM2400CRIZ-ND; Max Operating Temp (degreesC): 105; Mounting Technology: Surface Mount; Code_JEDEC: MS-013-AC; ComponentLink1Description: Manufacturer URL; ComponentLink1URL: http://www.analog.com/en/index.html; ComponentLink2Description: Datasheet; ComponentLink2URL: http://www.analog.com/static/imported-files/data_sheets/ADuM2400_2401_2402.pdf; ComponentLink3Description: Package Specification; ComponentLink3URL: http://www.analog.com/static/imported-files/data_sheets/ADuM2400_2401_2402.pdf; ComponentLink4Description: URL Link1; ComponentLink4URL: Product URL:http://www.analog.com/en/interface-isolation/digital-isolators/adum2400/products/product.html
footprint ADI-RI-16-1_N (SOIC, 16-Leads, Body 12.8x7.5mm, Pitch 1.27mm, IPC Medium Density)
footprint ADI-RI-16-1_L (SOIC, 16-Leads, Body 12.8x7.5mm, Pitch 1.27mm, IPC High Density)
footprint ADI-RI-16-1_M (SOIC, 16-Leads, Body 12.8x7.5mm, Pitch 1.27mm, IPC Low Density)
pins: 1 VDD1 (power) "Supply Voltage for Isolator Side 1.", 2 GND1 (power) "Ground 1. Ground reference for Isolator Side 1.", 3 VIA (in) "Logic Input A.", 4 VIB (in) "Logic Input B.", 5 VIC (in) "Logic Input C.", 6 VID (in) "Logic Input D.", 7 NC "No Connect.", 8 GND1 (power) "Ground 1. Ground reference for Isolator Side 1.", 9 GND2 (power) "Ground 2. Ground reference for Isolator Side 2.", 10 VE2 (in) "Output Enable 2. Active high logic input. VOA, VOB, VOC, and VOD outputs are enabled when VE2 is high or disconnected. VOA, VOB, VOC, and VOD outputs are disabled when VE2 is low. In noisy environments, connecting VE2 to an (See Datasheet)", 11 VOD (hiz) "Logic Output D.", 12 VOC (hiz) "Logic Output C.", 13 VOB (hiz) "Logic Output B.", 14 VOA (hiz) "Logic Output A.", 15 GND2 (power) "Ground 2. Ground reference for Isolator Side 2.", 16 VDD2 (power) "Supply Voltage for Isolator Side 2."

## ADUM2400CRIZ-RL
designator U?
Quad Channel Digital Isolator, 5 KV rms Insulation Rating, 90 Mbps Data Rate, 32 ns Delay, Industrial, 16-pin SOIC (RI-16-1), Reel; Manufacturer: Analog Devices; PartNumber: ADUM2400CRIZ-RL; Insulation Rating (kVrms): 5; Max Data Rate: 90Mbps; DatasheetVersion: 10-12-2010-A; PackageVersion: 10-12-2010-A, 02/2012; PackageReference: RI-16-1; PackageDescription: 16-Pin Standard Small Outline Package, with Increased Creepage, Body 12.8 x 7.5 mm, Pitch 1.27 mm; Supplier 1: Digi-Key; Supplier Part Number 1: ADUM2400CRIZ-RL-ND; Max Operating Temp (degreesC): 105; Mounting Technology: Surface Mount; Code_JEDEC: MS-013-AC; ComponentLink1Description: Manufacturer URL; ComponentLink1URL: http://www.analog.com/en/index.html; ComponentLink2Description: Datasheet; ComponentLink2URL: http://www.analog.com/static/imported-files/data_sheets/ADuM2400_2401_2402.pdf; ComponentLink3Description: Package Specification; ComponentLink3URL: http://www.analog.com/static/imported-files/data_sheets/ADuM2400_2401_2402.pdf; ComponentLink4Description: URL Link1; ComponentLink4URL: Product URL:http://www.analog.com/en/interface-isolation/digital-isolators/adum2400/products/product.html
footprint ADI-RI-16-1_N (SOIC, 16-Leads, Body 12.8x7.5mm, Pitch 1.27mm, IPC Medium Density)
footprint ADI-RI-16-1_L (SOIC, 16-Leads, Body 12.8x7.5mm, Pitch 1.27mm, IPC High Density)
footprint ADI-RI-16-1_M (SOIC, 16-Leads, Body 12.8x7.5mm, Pitch 1.27mm, IPC Low Density)
pins: 1 VDD1 (power) "Supply Voltage for Isolator Side 1.", 2 GND1 (power) "Ground 1. Ground reference for Isolator Side 1.", 3 VIA (in) "Logic Input A.", 4 VIB (in) "Logic Input B.", 5 VIC (in) "Logic Input C.", 6 VID (in) "Logic Input D.", 7 NC "No Connect.", 8 GND1 (power) "Ground 1. Ground reference for Isolator Side 1.", 9 GND2 (power) "Ground 2. Ground reference for Isolator Side 2.", 10 VE2 (in) "Output Enable 2. Active high logic input. VOA, VOB, VOC, and VOD outputs are enabled when VE2 is high or disconnected. VOA, VOB, VOC, and VOD outputs are disabled when VE2 is low. In noisy environments, connecting VE2 to an (See Datasheet)", 11 VOD (hiz) "Logic Output D.", 12 VOC (hiz) "Logic Output C.", 13 VOB (hiz) "Logic Output B.", 14 VOA (hiz) "Logic Output A.", 15 GND2 (power) "Ground 2. Ground reference for Isolator Side 2.", 16 VDD2 (power) "Supply Voltage for Isolator Side 2."

## ADUM2400CRWZ
designator U?
Quad Channel Digital Isolator, 5 KV rms Insulation Rating, 90 Mbps Data Rate, 32 ns Delay, Industrial, 16-pin SOIC (RW-16), Tube; Manufacturer: Analog Devices; PartNumber: ADUM2400CRWZ; Insulation Rating (kVrms): 5; Max Data Rate: 90Mbps; DatasheetVersion: 10-12-2010-A; PackageVersion: 032707-B, 03/2007; PackageReference: RW-16; PackageDescription: 16-Pin Standard Small Outline Package, Body 10.3 x 7.5 mm, Pitch 1.27 mm; Supplier 1: Digi-Key; Supplier Part Number 1: ADUM2400CRWZ-ND; Max Operating Temp (degreesC): 105; Mounting Technology: Surface Mount; Code_JEDEC: MS-013-AA; ComponentLink1Description: Manufacturer URL; ComponentLink1URL: http://www.analog.com/en/index.html; ComponentLink2Description: Datasheet; ComponentLink2URL: http://www.analog.com/static/imported-files/data_sheets/ADuM2400_2401_2402.pdf; ComponentLink3Description: Package Specification; ComponentLink3URL: http://www.analog.com/static/imported-files/packages/PKG_PDF/SOIC_WIDE%20%28RW%29/RW_16.pdf; ComponentLink4Description: URL Link1; ComponentLink4URL: Product URL:http://www.analog.com/en/interface-isolation/digital-isolators/adum2400/products/product.html
footprint ADI-RW-16_N (SOIC, 16-Leads, Body 10.3x7.5mm, Pitch 1.27mm, IPC Medium Density)
footprint ADI-RW-16_L (SOIC, 16-Leads, Body 10.3x7.5mm, Pitch 1.27mm, IPC High Density)
footprint ADI-RW-16_M (SOIC, 16-Leads, Body 10.3x7.5mm, Pitch 1.27mm, IPC Low Density)
pins: 1 VDD1 (power) "Supply Voltage for Isolator Side 1.", 2 GND1 (power) "Ground 1. Ground reference for Isolator Side 1.", 3 VIA (in) "Logic Input A.", 4 VIB (in) "Logic Input B.", 5 VIC (in) "Logic Input C.", 6 VID (in) "Logic Input D.", 7 NC "No Connect.", 8 GND1 (power) "Ground 1. Ground reference for Isolator Side 1.", 9 GND2 (power) "Ground 2. Ground reference for Isolator Side 2.", 10 VE2 (in) "Output Enable 2. Active high logic input. VOA, VOB, VOC, and VOD outputs are enabled when VE2 is high or disconnected. VOA, VOB, VOC, and VOD outputs are disabled when VE2 is low. In noisy environments, connecting VE2 to an (See Datasheet)", 11 VOD (hiz) "Logic Output D.", 12 VOC (hiz) "Logic Output C.", 13 VOB (hiz) "Logic Output B.", 14 VOA (hiz) "Logic Output A.", 15 GND2 (power) "Ground 2. Ground reference for Isolator Side 2.", 16 VDD2 (power) "Supply Voltage for Isolator Side 2."

## ADUM2400CRWZ-RL
designator U?
Quad Channel Digital Isolator, 5 KV rms Insulation Rating, 90 Mbps Data Rate, 32 ns Delay, Industrial, 16-pin SOIC (RW-16), Reel; Manufacturer: Analog Devices; PartNumber: ADUM2400CRWZ-RL; Insulation Rating (kVrms): 5; Max Data Rate: 90Mbps; DatasheetVersion: 10-12-2010-A; PackageVersion: 032707-B, 03/2007; PackageReference: RW-16; PackageDescription: 16-Pin Standard Small Outline Package, Body 10.3 x 7.5 mm, Pitch 1.27 mm; Supplier 1: Digi-Key; Supplier Part Number 1: ADUM2400CRWZ-RL-ND; Max Operating Temp (degreesC): 105; Mounting Technology: Surface Mount; Code_JEDEC: MS-013-AA; ComponentLink1Description: Manufacturer URL; ComponentLink1URL: http://www.analog.com/en/index.html; ComponentLink2Description: Datasheet; ComponentLink2URL: http://www.analog.com/static/imported-files/data_sheets/ADuM2400_2401_2402.pdf; ComponentLink3Description: Package Specification; ComponentLink3URL: http://www.analog.com/static/imported-files/packages/PKG_PDF/SOIC_WIDE%20%28RW%29/RW_16.pdf; ComponentLink4Description: URL Link1; ComponentLink4URL: Product URL:http://www.analog.com/en/interface-isolation/digital-isolators/adum2400/products/product.html
footprint ADI-RW-16_N (SOIC, 16-Leads, Body 10.3x7.5mm, Pitch 1.27mm, IPC Medium Density)
footprint ADI-RW-16_L (SOIC, 16-Leads, Body 10.3x7.5mm, Pitch 1.27mm, IPC High Density)
footprint ADI-RW-16_M (SOIC, 16-Leads, Body 10.3x7.5mm, Pitch 1.27mm, IPC Low Density)
pins: 1 VDD1 (power) "Supply Voltage for Isolator Side 1.", 2 GND1 (power) "Ground 1. Ground reference for Isolator Side 1.", 3 VIA (in) "Logic Input A.", 4 VIB (in) "Logic Input B.", 5 VIC (in) "Logic Input C.", 6 VID (in) "Logic Input D.", 7 NC "No Connect.", 8 GND1 (power) "Ground 1. Ground reference for Isolator Side 1.", 9 GND2 (power) "Ground 2. Ground reference for Isolator Side 2.", 10 VE2 (in) "Output Enable 2. Active high logic input. VOA, VOB, VOC, and VOD outputs are enabled when VE2 is high or disconnected. VOA, VOB, VOC, and VOD outputs are disabled when VE2 is low. In noisy environments, connecting VE2 to an (See Datasheet)", 11 VOD (hiz) "Logic Output D.", 12 VOC (hiz) "Logic Output C.", 13 VOB (hiz) "Logic Output B.", 14 VOA (hiz) "Logic Output A.", 15 GND2 (power) "Ground 2. Ground reference for Isolator Side 2.", 16 VDD2 (power) "Supply Voltage for Isolator Side 2."

## ADUM2401ARIZ
designator U?
Quad Channel Digital Isolator, 5 KV rms Insulation Rating, 1 Mbps Data Rate, 100 ns Delay, Industrial, 16-pin SOIC (RI-16-1), Tube; Manufacturer: Analog Devices; PartNumber: ADUM2401ARIZ; Insulation Rating (kVrms): 5; Max Data Rate: 1Mbps; DatasheetVersion: 10-12-2010-A; PackageVersion: 10-12-2010-A, 02/2012; PackageReference: RI-16-1; PackageDescription: 16-Pin Standard Small Outline Package, with Increased Creepage, Body 12.8 x 7.5 mm, Pitch 1.27 mm; Supplier 1: Digi-Key; Supplier Part Number 1: ADUM2401ARIZ-ND; Max Operating Temp (degreesC): 105; Mounting Technology: Surface Mount; Code_JEDEC: MS-013-AC; ComponentLink1Description: Manufacturer URL; ComponentLink1URL: http://www.analog.com/en/index.html; ComponentLink2Description: Datasheet; ComponentLink2URL: http://www.analog.com/static/imported-files/data_sheets/ADuM2400_2401_2402.pdf; ComponentLink3Description: Package Specification; ComponentLink3URL: http://www.analog.com/static/imported-files/data_sheets/ADuM2400_2401_2402.pdf; ComponentLink4Description: URL Link1; ComponentLink4URL: Product URL:http://www.analog.com/en/interface-isolation/digital-isolators/adum2401/products/product.html
footprint ADI-RI-16-1_N (SOIC, 16-Leads, Body 12.8x7.5mm, Pitch 1.27mm, IPC Medium Density)
footprint ADI-RI-16-1_L (SOIC, 16-Leads, Body 12.8x7.5mm, Pitch 1.27mm, IPC High Density)
footprint ADI-RI-16-1_M (SOIC, 16-Leads, Body 12.8x7.5mm, Pitch 1.27mm, IPC Low Density)
pins: 1 VDD1 (power) "Supply Voltage for Isolator Side 1.", 2 GND1 (power) "Ground 1. Ground reference for Isolator Side 1.", 3 VIA (in) "Logic Input A.", 4 VIB (in) "Logic Input B.", 5 VIC (in) "Logic Input C.", 6 VOD (hiz) "Logic Output D.", 7 VE1 (in) "Output Enable 1. Active high logic input. VOD output is enabled when VE1 is high or disconnected. VOD is disabled when VE1 is low. In noisy environments, connecting VE1 to an external logic high or low is recommended.", 8 GND1 (power) "Ground 1. Ground reference for Isolator Side 1.", 9 GND2 (power) "Ground 2. Ground reference for Isolator Side 2.", 10 VE2 (in) "Output Enable 2. Active high logic input. VOA, VOB, and VOC outputs are enabled when VE2 is high or disconnected. VOA, VOB, and VOC outputs are disabled when VE2 is low. In noisy environments, connecting VE2 to an external (See Datasheet)", 11 VID (in) "Logic Input D.", 12 VOC (hiz) "Logic Output C.", 13 VOB (hiz) "Logic Output B.", 14 VOA (hiz) "Logic Output A.", 15 GND2 (power) "Ground 2. Ground reference for Isolator Side 2.", 16 VDD2 (power) "Supply Voltage for Isolator Side 2."

## ADUM2401ARIZ-RL
designator U?
Quad Channel Digital Isolator, 5 KV rms Insulation Rating, 1 Mbps Data Rate, 100 ns Delay, Industrial, 16-pin SOIC (RI-16-1), Reel; Manufacturer: Analog Devices; PartNumber: ADUM2401ARIZ-RL; Insulation Rating (kVrms): 5; Max Data Rate: 1Mbps; DatasheetVersion: 10-12-2010-A; PackageVersion: 10-12-2010-A, 02/2012; PackageReference: RI-16-1; PackageDescription: 16-Pin Standard Small Outline Package, with Increased Creepage, Body 12.8 x 7.5 mm, Pitch 1.27 mm; Supplier 1: Digi-Key; Supplier Part Number 1: ADUM2401ARIZ-RL-ND; Max Operating Temp (degreesC): 105; Mounting Technology: Surface Mount; Code_JEDEC: MS-013-AC; ComponentLink1Description: Manufacturer URL; ComponentLink1URL: http://www.analog.com/en/index.html; ComponentLink2Description: Datasheet; ComponentLink2URL: http://www.analog.com/static/imported-files/data_sheets/ADuM2400_2401_2402.pdf; ComponentLink3Description: Package Specification; ComponentLink3URL: http://www.analog.com/static/imported-files/data_sheets/ADuM2400_2401_2402.pdf; ComponentLink4Description: URL Link1; ComponentLink4URL: Product URL:http://www.analog.com/en/interface-isolation/digital-isolators/adum2401/products/product.html
footprint ADI-RI-16-1_N (SOIC, 16-Leads, Body 12.8x7.5mm, Pitch 1.27mm, IPC Medium Density)
footprint ADI-RI-16-1_L (SOIC, 16-Leads, Body 12.8x7.5mm, Pitch 1.27mm, IPC High Density)
footprint ADI-RI-16-1_M (SOIC, 16-Leads, Body 12.8x7.5mm, Pitch 1.27mm, IPC Low Density)
pins: 1 VDD1 (power) "Supply Voltage for Isolator Side 1.", 2 GND1 (power) "Ground 1. Ground reference for Isolator Side 1.", 3 VIA (in) "Logic Input A.", 4 VIB (in) "Logic Input B.", 5 VIC (in) "Logic Input C.", 6 VOD (hiz) "Logic Output D.", 7 VE1 (in) "Output Enable 1. Active high logic input. VOD output is enabled when VE1 is high or disconnected. VOD is disabled when VE1 is low. In noisy environments, connecting VE1 to an external logic high or low is recommended.", 8 GND1 (power) "Ground 1. Ground reference for Isolator Side 1.", 9 GND2 (power) "Ground 2. Ground reference for Isolator Side 2.", 10 VE2 (in) "Output Enable 2. Active high logic input. VOA, VOB, and VOC outputs are enabled when VE2 is high or disconnected. VOA, VOB, and VOC outputs are disabled when VE2 is low. In noisy environments, connecting VE2 to an external (See Datasheet)", 11 VID (in) "Logic Input D.", 12 VOC (hiz) "Logic Output C.", 13 VOB (hiz) "Logic Output B.", 14 VOA (hiz) "Logic Output A.", 15 GND2 (power) "Ground 2. Ground reference for Isolator Side 2.", 16 VDD2 (power) "Supply Voltage for Isolator Side 2."